# EAGLE library part SAMTEC_FTSH_12 (library mastrogippo)
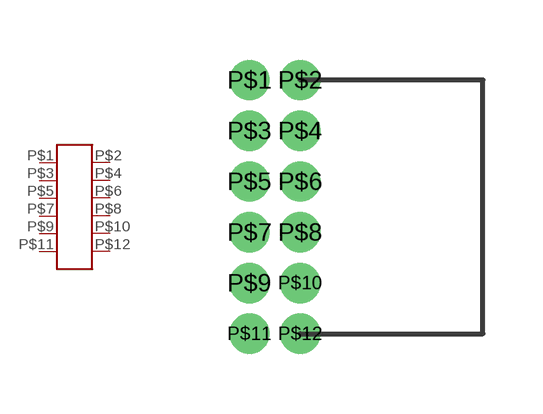
[diagram p19: symbol with the pads of 6X2_1MM; footprint 6X2_1MM]

Designator prefix -

## SAMTEC_FTSH_12  [6X2_1MM]
P$1  P$1
P$2  P$2
P$3  P$3
P$4  P$4
P$5  P$5
P$6  P$6
P$7  P$7
P$8  P$8
P$9  P$9
P$10  P$10
P$11  P$11
P$12  P$12

## Footprint 6X2_1MM (pad centres in mm)
drill 0.5 pad 0.8: P$1 -0.635,3.175; P$2 0.635,3.175; P$3 -0.635,1.905; P$4 0.635,1.905; P$5 -0.635,0.635; P$6 0.635,0.635; P$7 -0.635,-0.635; P$8 0.635,-0.635; P$9 -0.635,-1.905; P$10 0.635,-1.905; P$11 -0.635,-3.175; P$12 0.635,-3.175